# Altium footprint library Inductor_SMD.PcbLib: 587 footprints (part 8 of 37)
Each footprint in its own frame and in the unit in brackets; x right, y up, seen from the top. Pads: shape width x height; smd on the part's side, far side on the other; paste and mask are expansions set on the pad; w line width, h text height; cw(c..) or ccw(c..) is an arc to the next point about the centre after c.
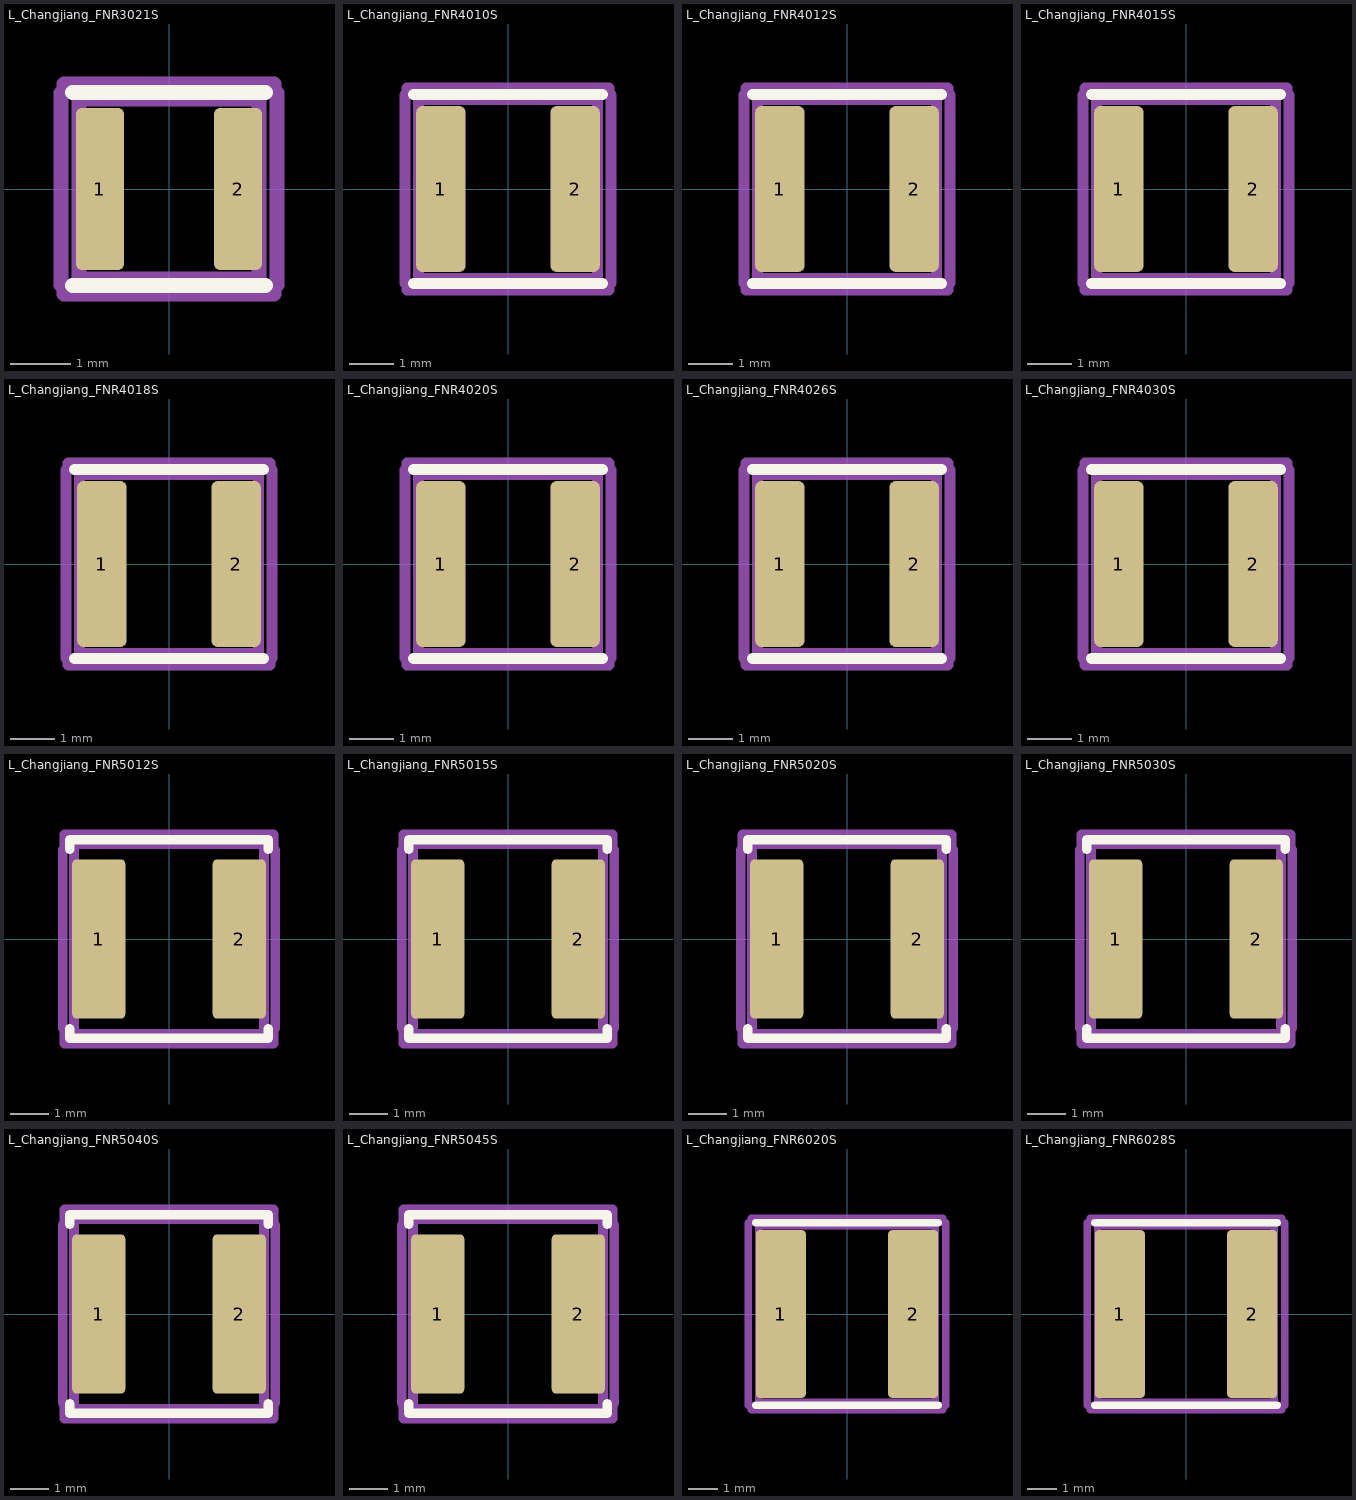
[diagram p7: the footprints below, top view; thin cyan lines are the x and y axes]

## L_Changjiang_FNR3021S [mm] "L_Changjiang_FNR3021S"
pads (2):
  rrect25% 0.8x2.7 smd: 1(-1.15,0) 2(1.15,0)
F.SilkS:
  lines w0.254: -1.61,-1.61 1.61,-1.61 ; -1.61,1.61 1.61,1.61
Top Assembly:
  lines w0.254: -1.5,-1.5 -1.5,1.5 1.5,1.5 1.5,-1.5 -1.5,-1.5
  text "'.Designator'" at -3.033,-0.628 h0.75
Top Courtyard:
  lines w0.254: -1.8,-1.6 -1.8,1.6 -1.75,1.6 -1.75,1.75 1.75,1.75 1.75,1.6 1.8,1.6 1.8,-1.6 1.75,-1.6 1.75,-1.75 -1.75,-1.75 -1.75,-1.6 -1.8,-1.6
Top Designator:
  text ".Designator" at -7.728,-0.508 h1.52
3D body "L_Changjiang_FNR3021S.step": height 2.35, standoff 0, extent -1.51,-1.5 1.51,1.5

## L_Changjiang_FNR4010S [mm] "L_Changjiang_FNR4010S"
pads (2):
  rrect23% 1.1x3.7 smd: 1(-1.5,0) 2(1.5,0)
F.SilkS:
  lines w0.254: -2.11,-2.11 2.11,-2.11 ; -2.11,2.11 2.11,2.11
Top Assembly:
  lines w0.254: -2,-2 -2,2 2,2 2,-2 -2,-2
  text "'.Designator'" at -4.047,-0.84 h1
Top Courtyard:
  lines w0.254: -2.3,-2.1 -2.3,2.1 -2.25,2.1 -2.25,2.25 2.25,2.25 2.25,2.1 2.3,2.1 2.3,-2.1 2.25,-2.1 2.25,-2.25 -2.25,-2.25 -2.25,-2.1 -2.3,-2.1
Top Designator:
  text ".Designator" at -7.768,-0.508 h1.52
3D body "L_Changjiang_FNR4010S.step": height 1, standoff 0, extent -2.01,-2 2.01,2

## L_Changjiang_FNR4012S [mm] "L_Changjiang_FNR4012S"
pads (2):
  rrect23% 1.1x3.7 smd: 1(-1.5,0) 2(1.5,0)
F.SilkS:
  lines w0.254: -2.11,-2.11 2.11,-2.11 ; -2.11,2.11 2.11,2.11
Top Assembly:
  lines w0.254: -2,-2 -2,2 2,2 2,-2 -2,-2
  text "'.Designator'" at -4.047,-0.84 h1
Top Courtyard:
  lines w0.254: -2.3,-2.1 -2.3,2.1 -2.25,2.1 -2.25,2.25 2.25,2.25 2.25,2.1 2.3,2.1 2.3,-2.1 2.25,-2.1 2.25,-2.25 -2.25,-2.25 -2.25,-2.1 -2.3,-2.1
Top Designator:
  text ".Designator" at -7.768,-0.508 h1.52
3D body "L_Changjiang_FNR4012S.step": height 1.2, standoff 0, extent -2.01,-2 2.01,2

## L_Changjiang_FNR4015S [mm] "L_Changjiang_FNR4015S"
pads (2):
  rrect23% 1.1x3.7 smd: 1(-1.5,0) 2(1.5,0)
F.SilkS:
  lines w0.254: -2.11,-2.11 2.11,-2.11 ; -2.11,2.11 2.11,2.11
Top Assembly:
  lines w0.254: -2,-2 -2,2 2,2 2,-2 -2,-2
  text "'.Designator'" at -4.047,-0.84 h1
Top Courtyard:
  lines w0.254: -2.3,-2.1 -2.3,2.1 -2.25,2.1 -2.25,2.25 2.25,2.25 2.25,2.1 2.3,2.1 2.3,-2.1 2.25,-2.1 2.25,-2.25 -2.25,-2.25 -2.25,-2.1 -2.3,-2.1
Top Designator:
  text ".Designator" at -7.768,-0.508 h1.52
3D body "L_Changjiang_FNR4015S.step": height 1.65, standoff 0, extent -2.01,-2 2.01,2

## L_Changjiang_FNR4018S [mm] "L_Changjiang_FNR4018S"
pads (2):
  rrect23% 1.1x3.7 smd: 1(-1.5,0) 2(1.5,0)
F.SilkS:
  lines w0.254: -2.11,-2.11 2.11,-2.11 ; -2.11,2.11 2.11,2.11
Top Assembly:
  lines w0.254: -2,-2 -2,2 2,2 2,-2 -2,-2
  text "'.Designator'" at -4.047,-0.84 h1
Top Courtyard:
  lines w0.254: -2.3,-2.1 -2.3,2.1 -2.25,2.1 -2.25,2.25 2.25,2.25 2.25,2.1 2.3,2.1 2.3,-2.1 2.25,-2.1 2.25,-2.25 -2.25,-2.25 -2.25,-2.1 -2.3,-2.1
Top Designator:
  text ".Designator" at -7.768,-0.508 h1.52
3D body "L_Changjiang_FNR4018S.step": height 1.8, standoff 0, extent -2.01,-2 2.01,2

## L_Changjiang_FNR4020S [mm] "L_Changjiang_FNR4020S"
pads (2):
  rrect23% 1.1x3.7 smd: 1(-1.5,0) 2(1.5,0)
F.SilkS:
  lines w0.254: -2.11,-2.11 2.11,-2.11 ; -2.11,2.11 2.11,2.11
Top Assembly:
  lines w0.254: -2,-2 -2,2 2,2 2,-2 -2,-2
  text "'.Designator'" at -4.047,-0.84 h1
Top Courtyard:
  lines w0.254: -2.3,-2.1 -2.3,2.1 -2.25,2.1 -2.25,2.25 2.25,2.25 2.25,2.1 2.3,2.1 2.3,-2.1 2.25,-2.1 2.25,-2.25 -2.25,-2.25 -2.25,-2.1 -2.3,-2.1
Top Designator:
  text ".Designator" at -7.768,-0.508 h1.52
3D body "L_Changjiang_FNR4020S.step": height 2, standoff 0, extent -2.01,-2 2.01,2

## L_Changjiang_FNR4026S [mm] "L_Changjiang_FNR4026S"
pads (2):
  rrect23% 1.1x3.7 smd: 1(-1.5,0) 2(1.5,0)
F.SilkS:
  lines w0.254: -2.11,-2.11 2.11,-2.11 ; -2.11,2.11 2.11,2.11
Top Assembly:
  lines w0.254: -2,-2 2,-2 2,2 -2,2 -2,-2
  text "'.Designator'" at -4.047,-0.84 h1
Top Courtyard:
  lines w0.254: -2.3,-2.1 -2.25,-2.1 -2.25,-2.25 2.25,-2.25 2.25,-2.1 2.3,-2.1 2.3,2.1 2.25,2.1 2.25,2.25 -2.25,2.25 -2.25,2.1 -2.3,2.1 -2.3,-2.1
Top Designator:
  text ".Designator" at -7.768,-0.508 h1.52
3D body "L_Changjiang_FNR4026S.step": height 2.6, standoff 0, extent -2.01,-2 2.01,2

## L_Changjiang_FNR4030S [mm] "L_Changjiang_FNR4030S"
pads (2):
  rrect23% 1.1x3.7 smd: 1(-1.5,0) 2(1.5,0)
F.SilkS:
  lines w0.254: -2.11,-2.11 2.11,-2.11 ; -2.11,2.11 2.11,2.11
Top Assembly:
  lines w0.254: -2,-2 -2,2 2,2 2,-2 -2,-2
  text "'.Designator'" at -4.047,-0.84 h1
Top Courtyard:
  lines w0.254: -2.3,-2.1 -2.3,2.1 -2.25,2.1 -2.25,2.25 2.25,2.25 2.25,2.1 2.3,2.1 2.3,-2.1 2.25,-2.1 2.25,-2.25 -2.25,-2.25 -2.25,-2.1 -2.3,-2.1
Top Designator:
  text ".Designator" at -7.768,-0.508 h1.52
3D body "L_Changjiang_FNR4030S.step": height 3, standoff 0, extent -2.01,-2 2.01,2

## L_Changjiang_FNR5012S [mm] "L_Changjiang_FNR5012S"
pads (2):
  rrect18% 1.4x4.2 smd: 1(-1.85,0) 2(1.85,0)
F.SilkS:
  lines w0.254: -2.61,-2.36 -2.61,-2.61 2.61,-2.61 2.61,-2.36 ; -2.61,2.36 -2.61,2.61 2.61,2.61 2.61,2.36
Top Assembly:
  lines w0.254: -2.5,-2.5 2.5,-2.5 2.5,2.5 -2.5,2.5 -2.5,-2.5
  text "'.Designator'" at -4.047,-0.84 h1
Top Courtyard:
  lines w0.254: -2.8,-2.35 -2.75,-2.35 -2.75,-2.75 2.75,-2.75 2.75,-2.35 2.8,-2.35 2.8,2.35 2.75,2.35 2.75,2.75 -2.75,2.75 -2.75,2.35 -2.8,2.35 -2.8,-2.35
Top Designator:
  text ".Designator" at -7.768,-0.508 h1.52
3D body "L_Changjiang_FNR5012S.step": height 1.2, standoff 0, extent -2.51,-2.5 2.51,2.5

## L_Changjiang_FNR5015S [mm] "L_Changjiang_FNR5015S"
pads (2):
  rrect18% 1.4x4.2 smd: 1(-1.85,0) 2(1.85,0)
F.SilkS:
  lines w0.254: -2.61,-2.36 -2.61,-2.61 2.61,-2.61 2.61,-2.36 ; -2.61,2.36 -2.61,2.61 2.61,2.61 2.61,2.36
Top Assembly:
  lines w0.254: -2.5,-2.5 -2.5,2.5 2.5,2.5 2.5,-2.5 -2.5,-2.5
  text "'.Designator'" at -4.047,-0.84 h1
Top Courtyard:
  lines w0.254: -2.8,-2.35 -2.8,2.35 -2.75,2.35 -2.75,2.75 2.75,2.75 2.75,2.35 2.8,2.35 2.8,-2.35 2.75,-2.35 2.75,-2.75 -2.75,-2.75 -2.75,-2.35 -2.8,-2.35
Top Designator:
  text ".Designator" at -7.768,-0.508 h1.52
3D body "L_Changjiang_FNR5015S.step": height 1.5, standoff 0, extent -2.51,-2.5 2.51,2.5

## L_Changjiang_FNR5020S [mm] "L_Changjiang_FNR5020S"
pads (2):
  rrect18% 1.4x4.2 smd: 1(-1.85,0) 2(1.85,0)
F.SilkS:
  lines w0.254: -2.61,-2.36 -2.61,-2.61 2.61,-2.61 2.61,-2.36 ; -2.61,2.36 -2.61,2.61 2.61,2.61 2.61,2.36
Top Assembly:
  lines w0.254: -2.5,-2.5 2.5,-2.5 2.5,2.5 -2.5,2.5 -2.5,-2.5
  text "'.Designator'" at -4.047,-0.84 h1
Top Courtyard:
  lines w0.254: -2.8,-2.35 -2.75,-2.35 -2.75,-2.75 2.75,-2.75 2.75,-2.35 2.8,-2.35 2.8,2.35 2.75,2.35 2.75,2.75 -2.75,2.75 -2.75,2.35 -2.8,2.35 -2.8,-2.35
Top Designator:
  text ".Designator" at -7.768,-0.508 h1.52
3D body "L_Changjiang_FNR5020S.step": height 2, standoff 0, extent -2.51,-2.5 2.51,2.5

## L_Changjiang_FNR5030S [mm] "L_Changjiang_FNR5030S"
pads (2):
  rrect18% 1.4x4.2 smd: 1(-1.85,0) 2(1.85,0)
F.SilkS:
  lines w0.254: -2.61,-2.36 -2.61,-2.61 2.61,-2.61 2.61,-2.36 ; -2.61,2.36 -2.61,2.61 2.61,2.61 2.61,2.36
Top Assembly:
  lines w0.254: -2.5,-2.5 -2.5,2.5 2.5,2.5 2.5,-2.5 -2.5,-2.5
  text "'.Designator'" at -4.047,-0.84 h1
Top Courtyard:
  lines w0.254: -2.8,-2.35 -2.8,2.35 -2.75,2.35 -2.75,2.75 2.75,2.75 2.75,2.35 2.8,2.35 2.8,-2.35 2.75,-2.35 2.75,-2.75 -2.75,-2.75 -2.75,-2.35 -2.8,-2.35
Top Designator:
  text ".Designator" at -7.768,-0.508 h1.52
3D body "L_Changjiang_FNR5030S.step": height 3, standoff 0, extent -2.51,-2.5 2.51,2.5

## L_Changjiang_FNR5040S [mm] "L_Changjiang_FNR5040S"
pads (2):
  rrect18% 1.4x4.2 smd: 1(-1.85,0) 2(1.85,0)
F.SilkS:
  lines w0.254: -2.61,-2.36 -2.61,-2.61 2.61,-2.61 2.61,-2.36 ; -2.61,2.36 -2.61,2.61 2.61,2.61 2.61,2.36
Top Assembly:
  lines w0.254: -2.5,-2.5 2.5,-2.5 2.5,2.5 -2.5,2.5 -2.5,-2.5
  text "'.Designator'" at -4.047,-0.84 h1
Top Courtyard:
  lines w0.254: -2.8,-2.35 -2.75,-2.35 -2.75,-2.75 2.75,-2.75 2.75,-2.35 2.8,-2.35 2.8,2.35 2.75,2.35 2.75,2.75 -2.75,2.75 -2.75,2.35 -2.8,2.35 -2.8,-2.35
Top Designator:
  text ".Designator" at -7.768,-0.508 h1.52
3D body "L_Changjiang_FNR5040S.step": height 4, standoff 0, extent -2.51,-2.5 2.51,2.5

## L_Changjiang_FNR5045S [mm] "L_Changjiang_FNR5045S"
pads (2):
  rrect18% 1.4x4.2 smd: 1(-1.85,0) 2(1.85,0)
F.SilkS:
  lines w0.254: -2.61,-2.36 -2.61,-2.61 2.61,-2.61 2.61,-2.36 ; -2.61,2.36 -2.61,2.61 2.61,2.61 2.61,2.36
Top Assembly:
  lines w0.254: -2.5,-2.5 2.5,-2.5 2.5,2.5 -2.5,2.5 -2.5,-2.5
  text "'.Designator'" at -4.047,-0.84 h1
Top Courtyard:
  lines w0.254: -2.8,-2.35 -2.75,-2.35 -2.75,-2.75 2.75,-2.75 2.75,-2.35 2.8,-2.35 2.8,2.35 2.75,2.35 2.75,2.75 -2.75,2.75 -2.75,2.35 -2.8,2.35 -2.8,-2.35
Top Designator:
  text ".Designator" at -7.768,-0.508 h1.52
3D body "L_Changjiang_FNR5045S.step": height 4.5, standoff 0, extent -2.51,-2.5 2.51,2.5

## L_Changjiang_FNR6020S [mm] "L_Changjiang_FNR6020S"
pads (2):
  rrect15% 1.7x5.7 smd: 1(-2.25,0) 2(2.25,0)
F.SilkS:
  lines w0.254: -3.11,-3.11 3.11,-3.11 ; -3.11,3.11 3.11,3.11
Top Assembly:
  lines w0.254: -3,-3 -3,3 3,3 3,-3 -3,-3
  text "'.Designator'" at -4.047,-0.84 h1
Top Courtyard:
  lines w0.254: -3.35,-3.1 -3.35,3.1 -3.25,3.1 -3.25,3.25 3.25,3.25 3.25,3.1 3.35,3.1 3.35,-3.1 3.25,-3.1 3.25,-3.25 -3.25,-3.25 -3.25,-3.1 -3.35,-3.1
Top Designator:
  text ".Designator" at -7.768,-0.508 h1.52
3D body "L_Changjiang_FNR6020S.step": height 2, standoff 0, extent -3.01,-3 3.01,3

## L_Changjiang_FNR6028S [mm] "L_Changjiang_FNR6028S"
pads (2):
  rrect15% 1.7x5.7 smd: 1(-2.25,0) 2(2.25,0)
F.SilkS:
  lines w0.254: -3.11,-3.11 3.11,-3.11 ; -3.11,3.11 3.11,3.11
Top Assembly:
  lines w0.254: -3,-3 3,-3 3,3 -3,3 -3,-3
  text "'.Designator'" at -4.047,-0.84 h1
Top Courtyard:
  lines w0.254: -3.35,-3.1 -3.25,-3.1 -3.25,-3.25 3.25,-3.25 3.25,-3.1 3.35,-3.1 3.35,3.1 3.25,3.1 3.25,3.25 -3.25,3.25 -3.25,3.1 -3.35,3.1 -3.35,-3.1
Top Designator:
  text ".Designator" at -7.768,-0.508 h1.52
3D body "L_Changjiang_FNR6028S.step": height 2.8, standoff 0, extent -3.01,-3 3.01,3